# EAGLE library part NC7WZ16P6X (library NC7WZ16P6X)
Matches Performance of LCX when Operated at 3.3V VCC ; Over-Voltage Tolerance Inputs Facilitate 5V to 3V Translation ; Ultra-High Speed: tPD 2.4ns (Typical) into 50pF at 5V VCC ; Power Down High-Impedance Inputs/Outputs ; Space-Saving SC70 Package; Broad VCC Operating Range: 1.65V to 5.5V ; High Output Drive: +/-24mA at 3V VCC ; Ultra-Small MicroPak Packages ; Proprietary Noise/EMI Reduction Circuitry Source: Datasheet <https://www.onsemi.com/pub/Collateral/NC7WZ16-D.PDF>
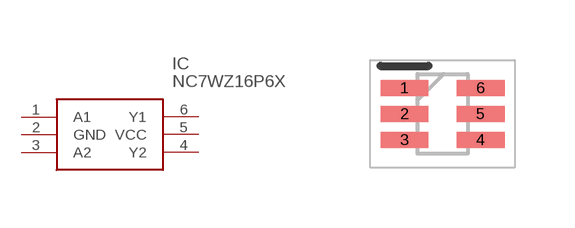
[diagram p0: symbol with the pads of SOT65P210X110-6N; footprint SOT65P210X110-6N]

Designator prefix IC

## NC7WZ16P6X (Arrow_Part_Number: NC7WZ16P6X; Arrow_Price-Stock: https://www.arrow.com/en/products/nc7wz16p6x/on-semiconductor; Description: Matches Performance of LCX when Operated at 3.3V VCC ; Over-Voltage Tolerance Inputs Facilitate 5V to 3V Translation ; Ultra-High Speed: tPD 2.4ns (Typical) into 50pF at 5V VCC ; Power Down High-Impedance Inputs/Outputs ; Space-Saving SC70 Package; Broad VCC Operating Range: 1.65V to 5.5V ; High Output Drive: +/-24mA at 3V VCC ; Ultra-Small MicroPak Packages ; Proprietary Noise/EMI Reduction Circuitry; Height: 1.1mm; Manufacturer_Name: onsemi; Manufacturer_Part_Number: NC7WZ16P6X; Mouser_Part_Number: 512-NC7WZ16P6X; Mouser_Price-Stock: https://www.mouser.co.uk/ProductDetail/onsemi-Fairchild/NC7WZ16P6X?qs=yRUxxYa83cgjitXtxHB4eA%3D%3D)  [SOT65P210X110-6N]
1  A1  in
2  GND  pwr
3  A2  in
4  Y2  out
5  VCC  pwr
6  Y1  out

## Footprint SOT65P210X110-6N (pad centres in mm)
SC-70
smd 1.2 x 0.4: 1 -0.95,0.65; 2 -0.95,0; 3 -0.95,-0.65; 4 0.95,-0.65; 5 0.95,0; 6 0.95,0.65